# EAGLE library part LM358 (library digital-toy)
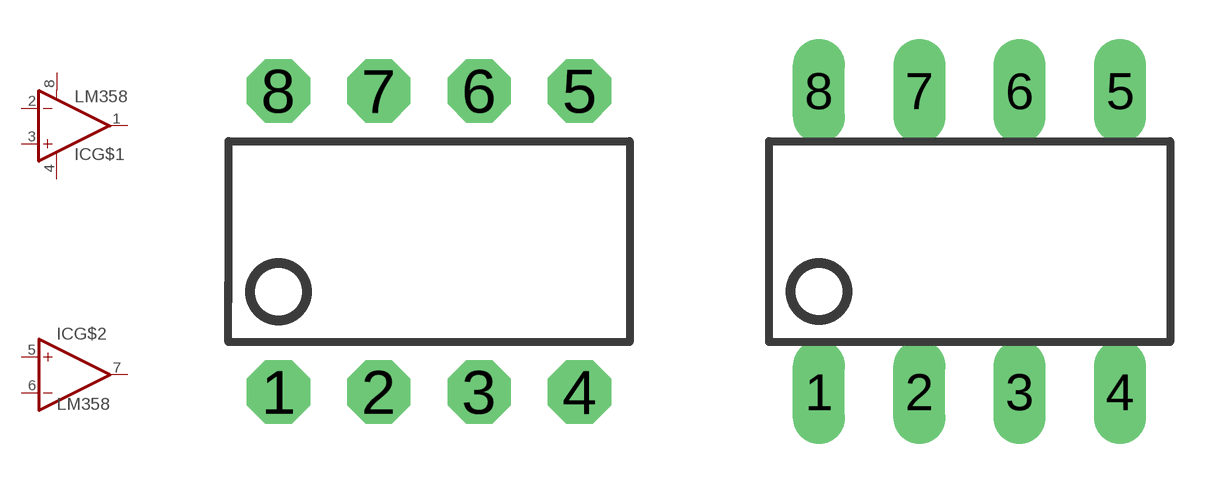
[diagram p0: symbol with the pads of DIP08; footprints DIP08, DIP08-L]

Designator prefix IC; gates G$1=OP-AMP+- G$2=OP-AMP

## LM358-DIP  [DIP08]
1  G$1:OUT  out
2  G$1:-IN  in
3  G$1:+IN  in
4  G$1:V-  pwr
5  G$2:+IN  in
6  G$2:-IN  in
7  G$2:OUT  out
8  G$1:V+  pwr

## LM358-DIPL  [DIP08-L]
Pads as for DIP08

## LM358-SO08  [SO08]
Pads as for DIP08

## LM358-RF  [DIP8-RF]
Pads as for DIP08

## LM358-EXP  [DIP8-EXP]
P$1  G$1:OUT  out
P$2  G$1:-IN  in
P$3  G$1:+IN  in
P$4  G$1:V-  pwr
P$5  G$2:+IN  in
P$6  G$2:-IN  in
P$7  G$2:OUT  out
P$8  G$1:V+  pwr

## Footprint DIP08 (pad centres in mm)
Dual In Line
drill 0.813 pad 1.6 octagon: 1 -3.81,-3.81; 2 -1.27,-3.81; 3 1.27,-3.81; 4 3.81,-3.81; 5 3.81,3.81; 6 1.27,3.81; 7 -1.27,3.81; 8 -3.81,3.81

## Footprint DIP08-L (pad centres in mm)
drill 0.813 long: 1 0,-2.54; 2 2.54,-2.54; 3 5.08,-2.54; 4 7.62,-2.54; 5 7.62,5.08; 6 5.08,5.08; 7 2.54,5.08; 8 0,5.08

## Footprint SO08 (pad centres in mm)
Small Outline Package 8 NS Package M08A
smd 0.6 x 2.2: 1 -1.905,-2.6; 2 -0.635,-2.6; 3 0.635,-2.6; 4 1.905,-2.6; 5 1.905,2.6; 6 0.635,2.6; 7 -0.635,2.6; 8 -1.905,2.6

## Footprint DIP8-RF (pad centres in mm)
Digital toy packages avoid drill too many hole,just soldering..., and good for RF prototype board
smd 1.27 x 3.81: 1 0,-3.81; 2 2.54,-3.81; 3 5.08,-3.81; 4 7.62,-3.81; 5 7.62,6.35; 6 5.08,6.35; 7 2.54,6.35; 8 0,6.35

## Footprint DIP8-EXP (pad centres in mm)
smd 2.54 x 5.08: P$1 -7.62,-7.62; P$2 -2.54,-7.62; P$3 2.54,-7.62; P$4 7.62,-7.62; P$5 7.62,7.62; P$6 2.54,7.62; P$7 -2.54,7.62; P$8 -7.62,7.62